# EAGLE library part ERM8-005-XX.X-X-DV (library con-samtec-er8)
ERM8 Series - Male
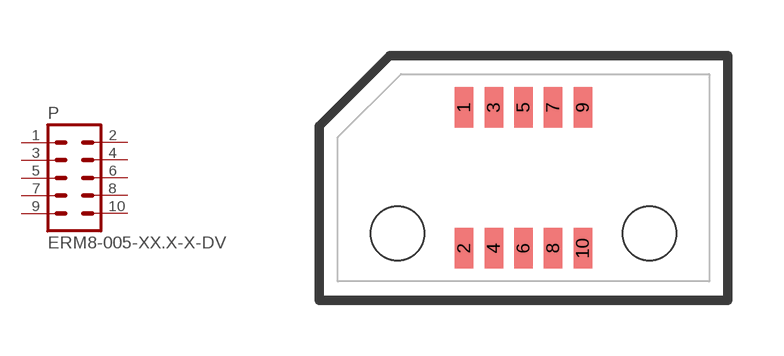
[diagram p10: symbol with the pads of ERM8-005-XX.X-X-DV; footprint ERM8-005-XX.X-X-DV]

Designator prefix P

## ERM8-005-XX.X-X-DV  [ERM8-005-XX.X-X-DV]
1  1  pas
2  2  pas
3  3  pas
4  4  pas
5  5  pas
6  6  pas
7  7  pas
8  8  pas
9  9  pas
10  10  pas

## Footprint ERM8-005-XX.X-X-DV (pad centres in mm)
0.8mm Edge Rate Terminal Assembly MALE, Double Vertical Row, 5 Position
smd 0.5 x 1.1: 1 -1.6,1.9; 2 -1.6,-1.9; 3 -0.8,1.9; 4 -0.8,-1.9; 5 0,1.9; 6 0,-1.9; 7 0.8,1.9; 8 0.8,-1.9; 9 1.6,1.9; 10 1.6,-1.9
hole 1.45 at -3.4,-1.5
hole 1.45 at 3.4,-1.5